# Altium schematic symbol library M-GFZM5310.Schlib: 1 symbol
Pins are listed as number, name and electrical type; pins without a type are passive.

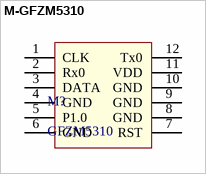
[diagram p0: symbol M-GFZM5310]

## M-GFZM5310
designator M?, comment GFZM5310
pins: 1 CLK, 2 Rx0, 3 DATA, 4 GND, 5 P1.0, 6 GND, 7 RST, 8 GND, 9 GND, 10 GND, 11 VDD, 12 Tx0